# EAGLE library part CKSR_15-NP (library CKSR_15-NP)
LEM CKSR Series Closed Loop Current Sensor, 15A Source: Datasheet <https://www.lem.com/sites/default/files/products_datasheets/cksr_series.pdf>
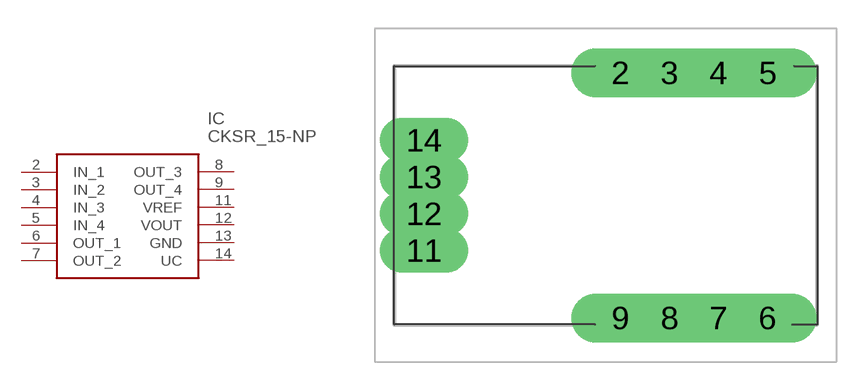
[diagram p0: symbol with the pads of CKSR15NP; footprint CKSR15NP]

Designator prefix IC

## CKSR_15-NP (Description: LEM CKSR Series Closed Loop Current Sensor, 15A; Height: 16mm; Manufacturer_Name: LEM; Manufacturer_Part_Number: CKSR 15-NP; Mouser_Part_Number: 61-CKSR15-NP; Mouser_Price-Stock: https://www.mouser.co.uk/ProductDetail/LEM/CKSR-15-NP?qs=Vi0JKjFBtYlFRnFoBvaWvA%3D%3D)  [CKSR15NP]
2  IN_1
3  IN_2
4  IN_3
5  IN_4
6  OUT_1
7  OUT_2
8  OUT_3
9  OUT_4
11  VREF
12  VOUT
13  GND
14  UC

## Footprint CKSR15NP (pad centres in mm)
CKSR_1
drill 1.3 pad 2.54 long: 2 0,0; 3 2.54,0; 4 5.08,0; 5 7.62,0; 6 7.62,-12.7; 7 5.08,-12.7; 8 2.54,-12.7; 9 0,-12.7
drill 0.8 pad 2.3 long: 11 -10.17,-9.208; 12 -10.17,-7.303; 13 -10.17,-5.398; 14 -10.17,-3.493